# EAGLE library part LMZ34202RVQT (library LMZ34202RVQT)
SIMPLE SWITCHER, 4.5V to 42V, 2A Step-Down Power Module in QFN Package Source: Datasheet <http://www.ti.com/lit/gpn/lmz34202>
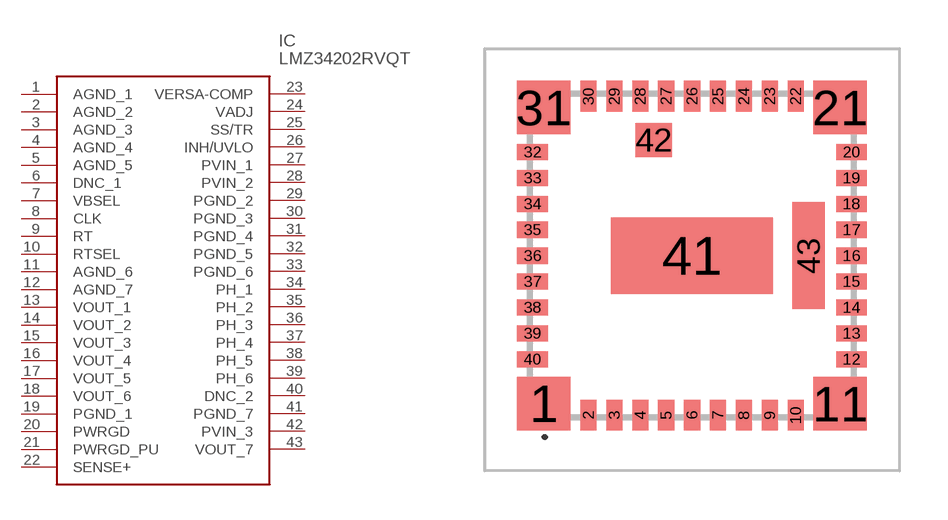
[diagram p0: symbol with the pads of LMZ36002RVQR; footprint LMZ36002RVQR]

Designator prefix IC

## LMZ34202RVQT (Arrow_Part_Number: LMZ34202RVQT; Arrow_Price-Stock: https://www.arrow.com/en/products/lmz34202rvqt/texas-instruments; Description: SIMPLE SWITCHER, 4.5V to 42V, 2A Step-Down Power Module in QFN Package; Height: 2.13mm; Manufacturer_Name: Texas Instruments; Manufacturer_Part_Number: LMZ34202RVQT; Mouser_Part_Number: 595-LMZ34202RVQT; Mouser_Price-Stock: https://www.mouser.co.uk/ProductDetail/Texas-Instruments/LMZ34202RVQT?qs=f4l5qYp%2Fy%252B51VIail3634A%3D%3D)  [LMZ36002RVQR]
1  AGND_1
2  AGND_2
3  AGND_3
4  AGND_4
5  AGND_5
6  DNC_1
7  VBSEL
8  CLK
9  RT
10  RTSEL
11  AGND_6
12  AGND_7
13  VOUT_1
14  VOUT_2
15  VOUT_3
16  VOUT_4
17  VOUT_5
18  VOUT_6
19  PGND_1
20  PWRGD
21  PWRGD_PU
22  SENSE+
23  VERSA-COMP
24  VADJ
25  SS/TR
26  INH/UVLO
27  PVIN_1
28  PVIN_2
29  PGND_2
30  PGND_3
31  PGND_4
32  PGND_5
33  PGND_6
34  PH_1
35  PH_2
36  PH_3
37  PH_4
38  PH_5
39  PH_6
40  DNC_2
41  PGND_7
42  PVIN_3
43  VOUT_7

## Footprint LMZ36002RVQR (pad centres in mm)
RVQ (S-PB3QFN-N43)
smd 1.65 x 1.65: 1 -4.575,-4.575; 11 4.575,-4.575; 21 4.575,4.575; 31 -4.575,4.575
smd 0.5 x 0.95: 2 -3.2,-4.925; 3 -2.4,-4.925; 4 -1.6,-4.925; 5 -0.8,-4.925; 6 0,-4.925; 7 0.8,-4.925; 8 1.6,-4.925; 9 2.4,-4.925; 10 3.2,-4.925; 22 3.2,4.925; 23 2.4,4.925; 24 1.6,4.925; 25 0.8,4.925; 26 0,4.925; 27 -0.8,4.925; 28 -1.6,4.925; 29 -2.4,4.925; 30 -3.2,4.925
smd 0.95 x 0.5: 12 4.925,-3.2; 13 4.925,-2.4; 14 4.925,-1.6; 15 4.925,-0.8; 16 4.925,0; 17 4.925,0.8; 18 4.925,1.6; 19 4.925,2.4; 20 4.925,3.2; 32 -4.925,3.2; 33 -4.925,2.4; 34 -4.925,1.6; 35 -4.925,0.8; 36 -4.925,0; 37 -4.925,-0.8; 38 -4.925,-1.6; 39 -4.925,-2.4; 40 -4.925,-3.2
smd 5 x 2.35: 41 0,0
smd 1.12 x 1.05: 42 -1.187,3.575
smd 1 x 3.3: 43 3.6,0